# EAGLE library part OLED96X16 (library untitled)
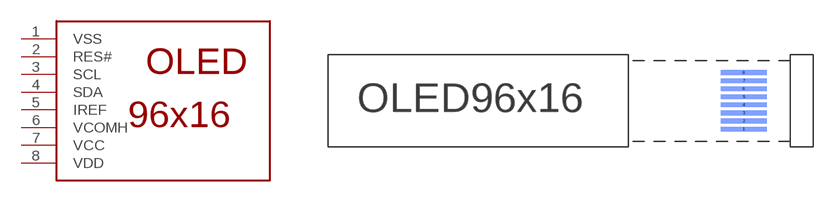
[diagram p42: symbol with the pads of OLED96X16; footprint OLED96X16]

Designator prefix -

## OLED96X16  [OLED96X16]
1  VSS
2  RES#
3  SCL
4  SDA
5  IREF
6  VCOMH
7  VCC
8  VDD

## Footprint OLED96X16 (pad centres in mm)
smd 4 x 0.4 bottom: 1 0,-2.45; 2 0,-1.75; 3 0,-1.05; 4 0,-0.35; 5 0,0.35; 6 0,1.05; 7 0,1.75; 8 0,2.45